# EAGLE library part STM32F303VCT6 (library Scott-MCU)
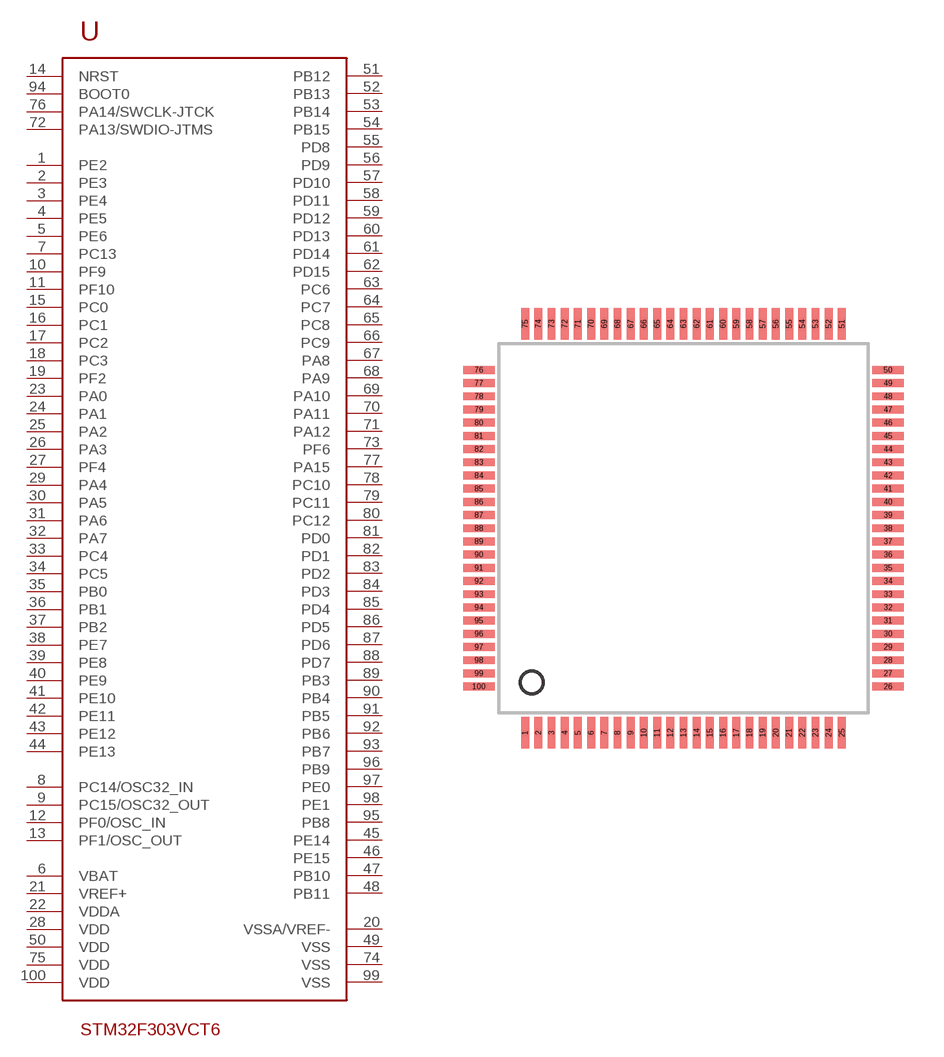
[diagram p3: symbol with the pads of LQFP-100; footprint LQFP-100]

Designator prefix -

## STM32F303VCT6  [LQFP-100]
1  PE2
2  PE3
3  PE4
4  PE5
5  PE6
6  VBAT
7  PC13
8  PC14/OSC32_IN
9  PC15/OSC32_OUT
10  PF9
11  PF10
12  PF0/OSC_IN
13  PF1/OSC_OUT
14  NRST
15  PC0
16  PC1
17  PC2
18  PC3
19  PF2
20  VSSA/VREF-
21  VREF+
22  VDDA
23  PA0
24  PA1
25  PA2
26  PA3
27  PF4
28  VDD
29  PA4
30  PA5
31  PA6
32  PA7
33  PC4
34  PC5
35  PB0
36  PB1
37  PB2
38  PE7
39  PE8
40  PE9
41  PE10
42  PE11
43  PE12
44  PE13
45  PE14
46  PE15
47  PB10
48  PB11
49  VSS
50  VDD
51  PB12
52  PB13
53  PB14
54  PB15
55  PD8
56  PD9
57  PD10
58  PD11
59  PD12
60  PD13
61  PD14
62  PD15
63  PC6
64  PC7
65  PC8
66  PC9
67  PA8
68  PA9
69  PA10
70  PA11
71  PA12
72  PA13/SWDIO-JTMS
73  PF6
74  VSS
75  VDD
76  PA14/SWCLK-JTCK
77  PA15
78  PC10
79  PC11
80  PC12
81  PD0
82  PD1
83  PD2
84  PD3
85  PD4
86  PD5
87  PD6
88  PD7
89  PB3
90  PB4
91  PB5
92  PB6
93  PB7
94  BOOT0
95  PB8
96  PB9
97  PE0
98  PE1
99  VSS
100  VDD

## Footprint LQFP-100 (pad centres in mm)
smd 0.3 x 1.2: 1 1,-14.75; 2 1.5,-14.75; 3 2,-14.75; 4 2.5,-14.75; 5 3,-14.75; 6 3.5,-14.75; 7 4,-14.75; 8 4.5,-14.75; 9 5,-14.75; 10 5.5,-14.75; 11 6,-14.75; 12 6.5,-14.75; 13 7,-14.75; 14 7.5,-14.75; 15 8,-14.75; 16 8.5,-14.75; 17 9,-14.75; 18 9.5,-14.75; 19 10,-14.75; 20 10.5,-14.75; 21 11,-14.75; 22 11.5,-14.75; 23 12,-14.75; 24 12.5,-14.75; 25 13,-14.75; 51 13,0.75; 52 12.5,0.75; 53 12,0.75; 54 11.5,0.75; 55 11,0.75; 56 10.5,0.75; 57 10,0.75; 58 9.5,0.75; 59 9,0.75; 60 8.5,0.75; 61 8,0.75; 62 7.5,0.75; 63 7,0.75; 64 6.5,0.75; 65 6,0.75; 66 5.5,0.75; 67 5,0.75; 68 4.5,0.75; 69 4,0.75; 70 3.5,0.75; 71 3,0.75; 72 2.5,0.75; 73 2,0.75; 74 1.5,0.75; 75 1,0.75
smd 1.2 x 0.3: 26 14.75,-13; 27 14.75,-12.5; 28 14.75,-12; 29 14.75,-11.5; 30 14.75,-11; 31 14.75,-10.5; 32 14.75,-10; 33 14.75,-9.5; 34 14.75,-9; 35 14.75,-8.5; 36 14.75,-8; 37 14.75,-7.5; 38 14.75,-7; 39 14.75,-6.5; 40 14.75,-6; 41 14.75,-5.5; 42 14.75,-5; 43 14.75,-4.5; 44 14.75,-4; 45 14.75,-3.5; 46 14.75,-3; 47 14.75,-2.5; 48 14.75,-2; 49 14.75,-1.5; 50 14.75,-1; 76 -0.75,-1; 77 -0.75,-1.5; 78 -0.75,-2; 79 -0.75,-2.5; 80 -0.75,-3; 81 -0.75,-3.5; 82 -0.75,-4; 83 -0.75,-4.5; 84 -0.75,-5; 85 -0.75,-5.5; 86 -0.75,-6; 87 -0.75,-6.5; 88 -0.75,-7; 89 -0.75,-7.5; 90 -0.75,-8; 91 -0.75,-8.5; 92 -0.75,-9; 93 -0.75,-9.5; 94 -0.75,-10; 95 -0.75,-10.5; 96 -0.75,-11; 97 -0.75,-11.5; 98 -0.75,-12; 99 -0.75,-12.5; 100 -0.75,-13